# Altium footprint library TSSOP-14_L5.0-W4.4-P0.65-LS6.4-BL-EP.PcbLib: 1 footprints
Each footprint in its own frame and in the unit in brackets; x right, y up, seen from the top. Pads: shape width x height; smd on the part's side, far side on the other; paste and mask are expansions set on the pad; w line width, h text height; cw(c..) or ccw(c..) is an arc to the next point about the centre after c.
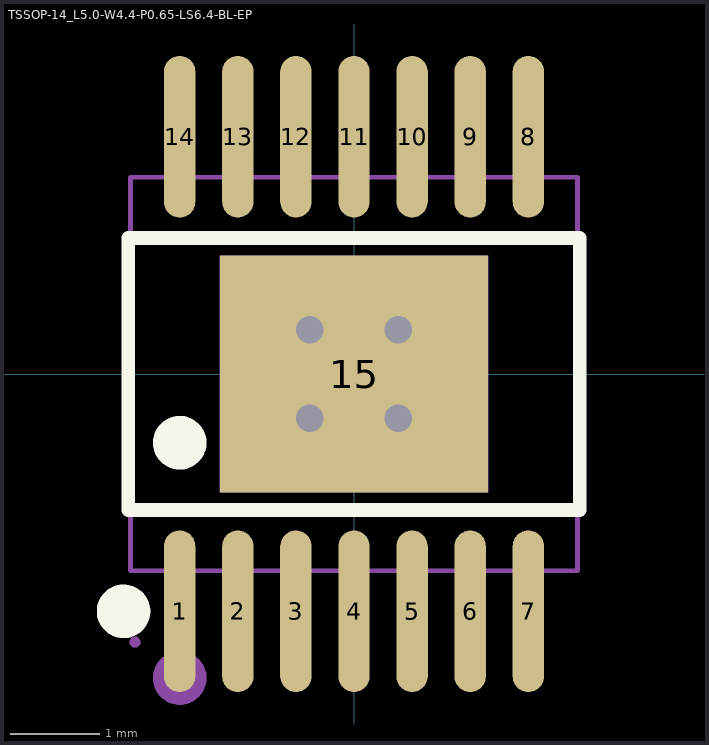
[diagram p0: the footprint, top view; thin cyan lines are the x and y axes]

## TSSOP-14_L5.0-W4.4-P0.65-LS6.4-BL-EP [mm]
pads (15):
  oval 0.35x1.809 smd: 1(-1.95,-2.655) 2(-1.3,-2.655) 3(-0.65,-2.655) 4(0,-2.655) 5(0.65,-2.655) 6(1.3,-2.655) 7(1.95,-2.655) 8(1.95,2.655) 9(1.3,2.655) 10(0.65,2.655) 11(0,2.655) 12(-0.65,2.655) 13(-1.3,2.655) 14(-1.95,2.655)
  rect 3x2.65 smd: 15(0,0)
via 0.495,-0.495 diameter 0.61 hole 0.305
via -0.495,-0.495 diameter 0.61 hole 0.305
via -0.495,0.495 diameter 0.61 hole 0.305
via 0.495,0.495 diameter 0.61 hole 0.305
Top Overlay:
  circle w0.3: c-2.577,-2.655 r0.15
  circle w0.3: c-1.95,-0.769 r0.15
  lines w0.152: -2.526,-1.521 2.526,-1.521 2.526,1.521 -2.526,1.521 -2.526,-1.521
Mechanical 6:
  circle w0.3: c-1.95,-3.4 r0.15
Mechanical 15:
  drawing of 34 lines, arcs and shapes, not listed